# EAGLE library part LP38693-SD (library NatSemi)
500mA Low Dropout CMOS Linear Regulator
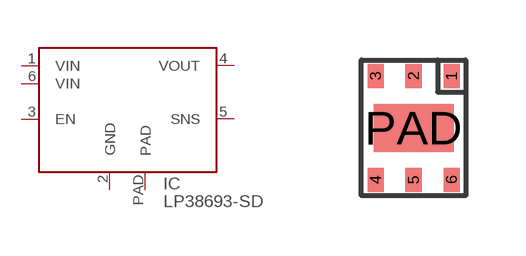
[diagram p2: symbol with the pads of NS-LLP6; footprint NS-LLP6]

Designator prefix IC

## LP38693-SD  [NS-LLP6]
1  VIN
2  GND
3  EN
4  VOUT
5  SNS
6  VIN
PAD  PAD

## Footprint NS-LLP6 (pad centres in mm)
National Semiconductor LLP-6
smd 0.4 x 0.6: 1 0.95,1.3; 2 0,1.3; 3 -0.95,1.3; 4 -0.95,-1.3; 5 0,-1.3; 6 0.95,-1.3
smd 2 x 1.2: PAD 0,0